# EAGLE library part QDSP-U238 (library mylib)
LED DISPLAY 1-character 7 segment, decimal point right
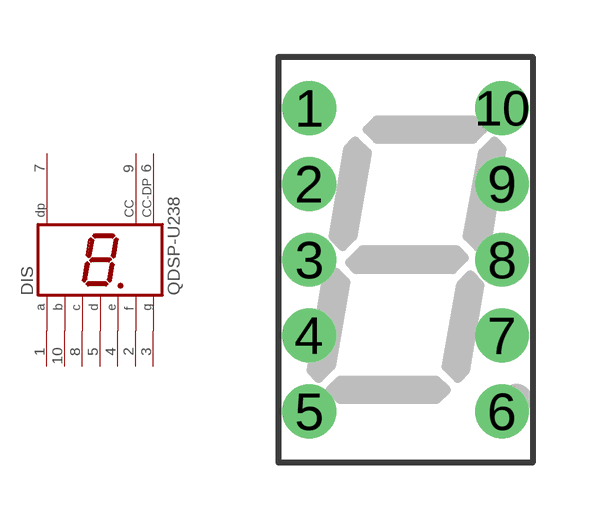
[diagram p5: symbol with the pads of QDSP-U; footprint QDSP-U]

Designator prefix DIS

## QDSP-U238 (OC_FARNELL: unknown; OC_NEWARK: unknown)  [QDSP-U]
1  A  pas
2  F  pas
3  G  pas
4  E  pas
5  D  pas
6  CC-DP  pas
7  DP  pas
8  C  pas
9  CC  pas
10  B  pas

## Footprint QDSP-U (pad centres in mm)
LED DISPLAY 8-mm 1 character 7 segment, decimal point right
drill 0.7 pad 1.422: 1 -2.54,4; 2 -2.54,2; 3 -2.54,0; 4 -2.54,-2; 5 -2.54,-4; 6 2.54,-4; 7 2.54,-2; 8 2.54,0; 9 2.54,2; 10 2.54,4